# Altium integrated library CMN.IntLib: 53 symbols
Pins are listed as number, name and electrical type; pins without a type are passive.

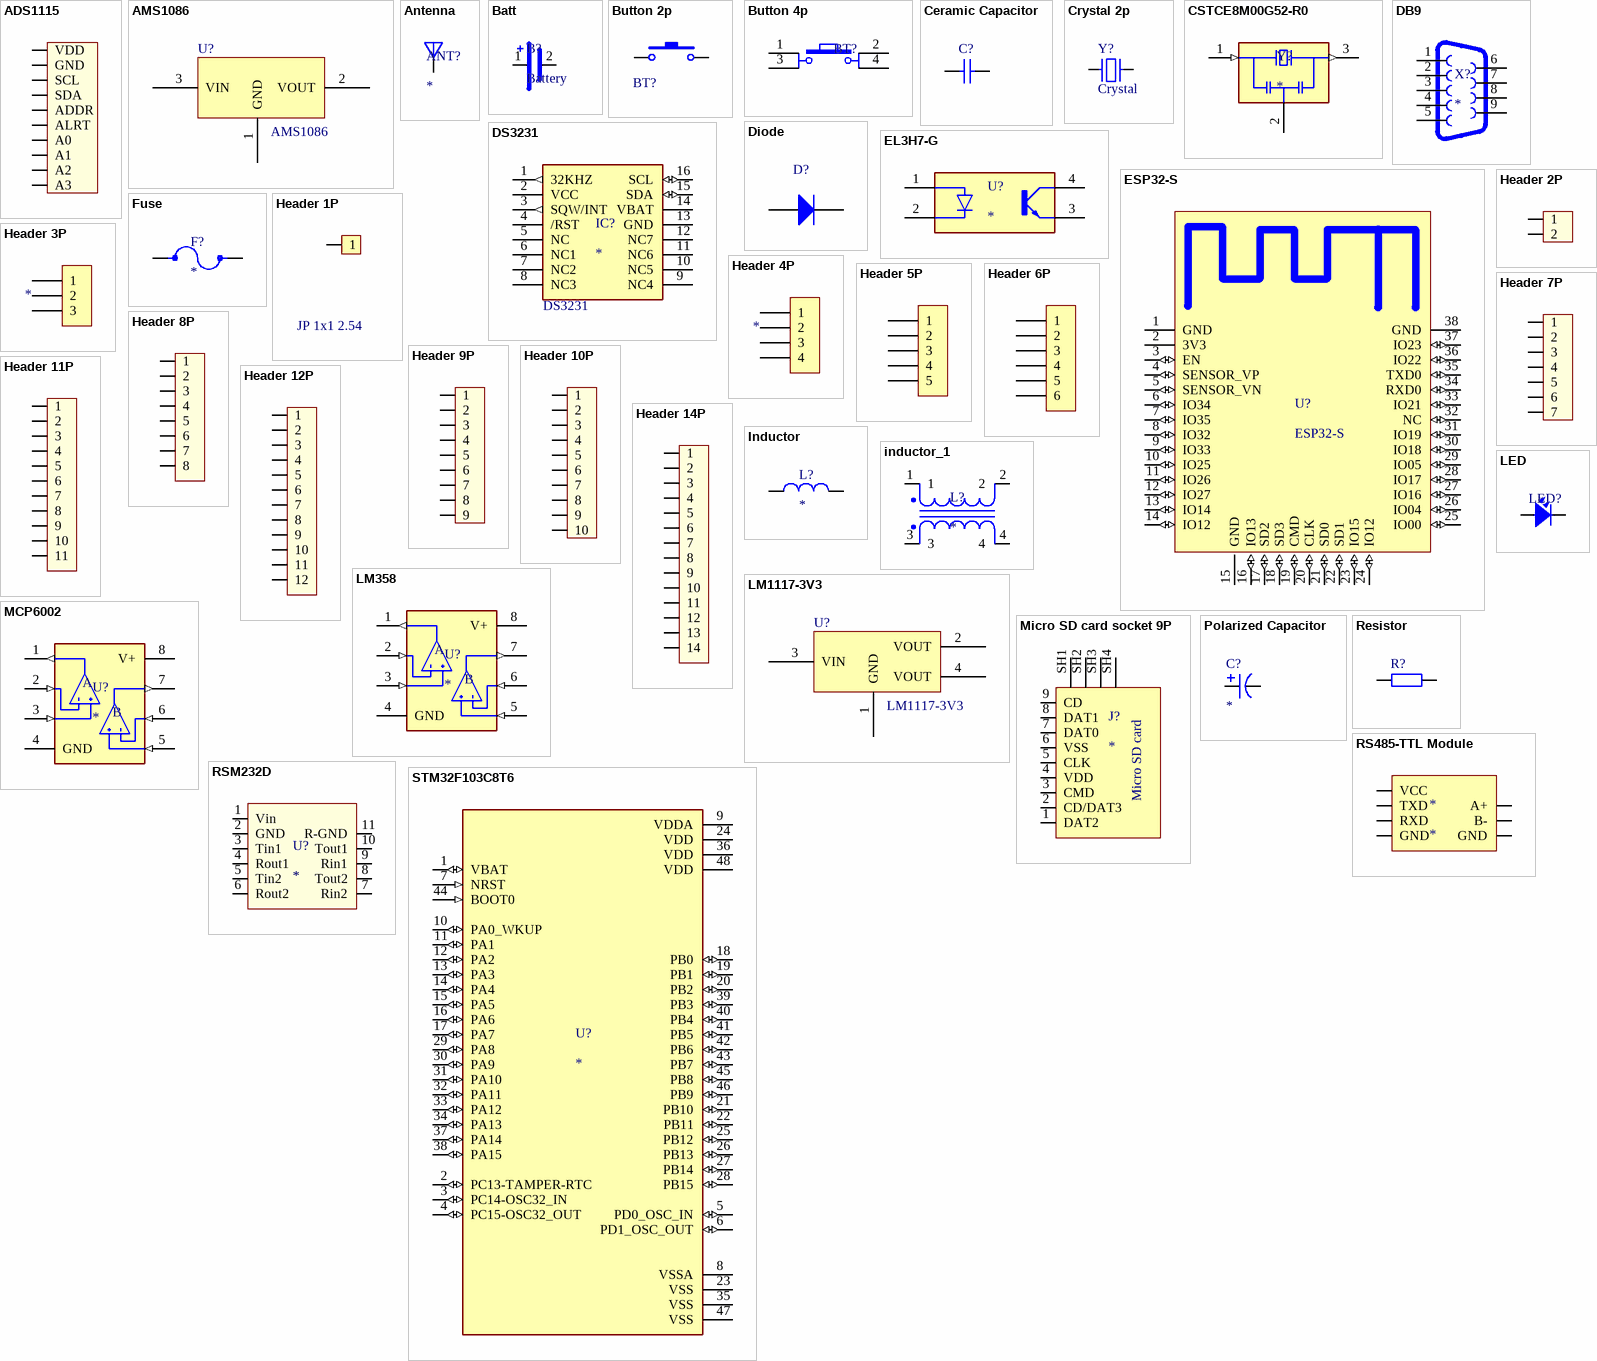
[diagram p0: symbols ADS1115 to STM32F103C8T6]

## ADS1115
designator U?
THT; Ten_Linh_Kien: Header 10P XH2.54-10P Đực Thẳng; Don_Vi: Con; Ma_Hang: MH001286; Chung_Loai: Cắm
footprint ADS1115 (4-channel ADC I2C)
pins: 1 VDD, 2 GND, 3 SCL, 4 SDA, 5 ADDR, 6 ALRT, 7 A0, 8 A1, 9 A2, 10 A3

## AMS1086
designator U?
Value: AMS1117-3.3V SOT223; Don_Vi: Con; Ma_Hang: MH000596; Chung_Loai: Dán; Ghi_Chu: *; Kieu_Chan: *
footprint TO-252 (SMD)
pins: 1 GND, 2 VOUT, 3 VIN

## Antenna
designator ANT?
footprint ANTENNA (for ESP32)
pins: 1 ANT

## Batt
designator B?, comment Battery
footprint CR2032_bat_holder (SMD_1)
footprint CR2032 Holder
pins: 1 Positive, 2 Negative

## Button 2p
designator BT?
Nut Nhan 2 Chan SMD 3x6x2.5; Ma_Hang: MH001036; Ten: Nút Nhấn 2 Chân 3x6x2.5MM SMD
footprint Button 2p 3x6x2.5 (Switch SMD type)
pins: 1, 2

## Button 4p
designator BT?
Ten: Nút Nhấn 4 Chân 6.2x6.2x3.1MM SMD; Ma_Hang: MH002424
footprint SMD button 4 pins 6x6 (SW SMD button 4pin, 250 x250 mil)
pins: 1, 2, 3, 4

## Ceramic Capacitor
designator C?
Chung_Loai: Dán; Don_Vi: Con; So_Chan: 2; Ten_Linh_Kien: Tụ 0805 104-100nF 10% 50V; Ma_Hang: MH004551; Kieu_Chan: *
footprint 0603_Cap (0603 SMD Ceramic Capacitor)
footprint 0805_Cap (0805 SMD Ceramic Capacitor)
footprint 1206_CAP (3216 Tantalum Capacitor)
pins: 1, 2

## Crystal 2p
designator Y?, comment Crystal
Crystal For all Crystal 2pin.; Value: 4Mhz
footprint Crystal SMD 2p
pins: 1, 2

## CSTCE8M00G52-R0
designator Y?
8MHz Ceramic Resonator Built in Capacitor 10pF Â±0.2% -20Â°C ~ 80Â°C Surface Mount; MF: Murata; MP: CSTCE8M00G52-R0; Price: None; Check_prices: https://www.snapeda.com/parts/CSTCE8M00G52-R0/Murata%20Electronics%20North%20America/view-part/234504/?ref=eda; SnapEDA_Link: https://www.snapeda.com/parts/CSTCE8M00G52-R0/Murata%20Electronics%20North%20America/view-part/234504/?ref=snap; Package: Surface Mount Murata Electronics North America; Availability: Bad; Value: *
footprint OSC_CSTCE8M00G52-R0
pins: 1 IN (in), 2 GND (power), 3 OUT (out)

## DB9
designator X?
SURGE SUPPRESSOR RS-232 DB9M/F; MF: Tripp Lite; MP: DB9; Package: None; Price: None; SnapEDA_Link: https://www.snapeda.com/parts/DB9/Tripp%20Lite/view-part/4219179/?ref=snap; Availability: Unavailable; Value: *
footprint DB9
pins: 1 DCD, 2 RXD, 3 TXD, 4 DTR, 5 GND, 6 DSR, 7 RTS, 8 CTS, 9 RI

## Diode
designator D?
Ten_Linh_Kien: Diode S4 SOD123 ( 1N5819 SOD123); Ma_Hang: MH005519; Chung_Loai: Dán; Don_Vi: Con; Ghi_Chu: *; Kieu_Chan: *
footprint SMC - DO-214 (TVS Diode)
footprint SMA - DO-214AC (TVS Diode)
footprint SMB - DO-214AA (TVS Diode)
footprint SOD-323
pins: 1, 2

## DS3231
designator IC?
Real Time Clock (RTC) IC Clock/Calendar - IÂ²C, 2-Wire Serial 8-SOIC (0.154, 3.90mm Width); MP: DS3231; MF: Maxim Integrated; Check_prices: https://www.snapeda.com/parts/DS3231/Maxim+Integrated/view-part/?ref=eda; Value: *; Availability: In Stock; Price: None; Package: SOIC-16 Maxim Integrated; SnapEDA_Link: https://www.snapeda.com/parts/DS3231/Maxim+Integrated/view-part/?ref=snap; Purchase-URL: https://pricing.snapeda.com/search/part/DS3231/?ref=eda
footprint SOIC-16
pins: 1 32KHZ (out), 2 VCC (power), 3 SQW/INT (out), 4 /RST, 5 NC, 6 NC1, 7 NC2, 8 NC3, 9 NC4, 10 NC5, 11 NC6, 12 NC7, 13 GND (power), 14 VBAT (power), 15 SDA (io), 16 SCL (io)

## EL3H7-G
designator U?
Optoisolator Transistor Output 3750Vrms 1 Channel 4-SSOP; MP: EL3H7-G; MF: Everlight Electronics; Check_prices: https://www.snapeda.com/parts/EL3H7-G/Everlight+Electronics+Co+Ltd/view-part/?ref=eda; Value: *; Availability: In Stock; Price: None; Package: SSOP-4 Everlight Electronics; SnapEDA_Link: https://www.snapeda.com/parts/EL3H7-G/Everlight+Electronics+Co+Ltd/view-part/?ref=snap
footprint SSOP-4 (SMD)
pins: 1 A, 2 C, 3 E, 4 CO

## ESP32-S
designator U?
footprint ESP32-S
pins: 1 GND (power), 2 3V3 (power), 3 EN (io), 4 SENSOR_VP (io), 5 SENSOR_VN (io), 6 IO34 (io), 7 IO35 (io), 8 IO32 (io), 9 IO33 (io), 10 IO25 (io), 11 IO26 (io), 12 IO27 (io), 13 IO14 (io), 14 IO12 (io), 15 GND (power), 16 IO13 (io), 17 SD2 (io), 18 SD3 (io), 19 CMD (io), 20 CLK (io), 21 SD0 (io), 22 SD1 (io), 23 IO15 (io), 24 IO12 (io), 25 IO00 (io), 26 IO04 (io), 27 IO16 (io), 28 IO17 (io), 29 IO05 (io), 30 IO18 (io), 31 IO19 (io), 32 NC (io), 33 IO21 (io), 34 RXD0 (io), 35 TXD0 (io), 36 IO22 (io), 37 IO23 (io), 38 GND (power)

## Fuse
designator F?
Polymeric PTC Resettable Fuse 12V 2.6A Ih Surface Mount 1206 (3216 Metric), Concave; MP: MF-NSML260/12-2; MF: Bourns Inc.; Check_prices: https://www.snapeda.com/parts/MF-NSML260/12-2/Bourns/view-part/6238260/?ref=eda; Package: None; Value: *; Availability: In Stock; SnapEDA_Link: https://www.snapeda.com/parts/MF-NSML260/12-2/Bourns/view-part/6238260/?ref=snap; Price: None
footprint 1206_Fuse (SMD)
footprint 1812_FUSE
pins: 1, 2

## Header 1P
designator JP?, comment JP 1x1 2.54
THT; Ten_Linh_Kien: Jump Đơn Đực 2.54MM 1x40P Thẳng 11MM; Don_Vi: Con; Ma_Hang: MH000903; Chung_Loai: Cắm; Ghi_Chu: *; Kieu_Chan: *
footprint JP 1x1
pins: 1

## Header 2P
designator H?
THT; Ten_Linh_Kien: Header 2P XH2.54-2P Đực Cong; Don_Vi: Con; Ma_Hang: MH002852; Chung_Loai: Cắm
footprint XH2.54M-2
footprint CON 2 EDG5.08-2P
footprint JP 1x2
pins: 1, 2

## Header 3P
designator H?
THT; Ten_Linh_Kien: Header 3P XH2.54-3P Đực Cong; Don_Vi: Con; Ma_Hang: MH001302; Chung_Loai: Cắm
footprint XH2.54M-3
footprint CON 3 EDG5.08-3P
footprint JP 1X3
pins: 1, 2, 3

## Header 4P
designator H?
THT; Ten_Linh_Kien: Header 4P XH2.54-4P Đực Cong; Don_Vi: Con; Ma_Hang: MH001310; Chung_Loai: Cắm
footprint XH2.54M-4
footprint CON 4 EDG5.08-4P
footprint JP 1X4
pins: 1, 2, 3, 4

## Header 5P
designator H?
THT; Ten_Linh_Kien: Header 5P XH2.54-5P Đực Cong; Don_Vi: Con; Ma_Hang: MH001308; Chung_Loai: Cắm
footprint XH2.54M-5
footprint CON 5 EDG5.08-5P
footprint JP 1X5
pins: 1, 2, 3, 4, 5

## Header 6P
designator H?
THT; Ten_Linh_Kien: Header 6P XH2.54-6P Đực Cong; Don_Vi: Con; Ma_Hang: MH003363; Chung_Loai: Cắm
footprint XH2.54M-6
footprint JP 1X6
pins: 1, 2, 3, 4, 5, 6

## Header 7P
designator H?
THT; Ten_Linh_Kien: Header 7P XH2.54-7P Đực Cong; Don_Vi: Con; Ma_Hang: MH004118; Chung_Loai: Cắm
footprint JP 1X7
pins: 1, 2, 3, 4, 5, 6, 7

## Header 8P
designator H?
THT; Ten_Linh_Kien: Header 8P XH2.54-8P Đực Cong; Don_Vi: Con; Ma_Hang: MH003367; Chung_Loai: Cắm
footprint JP 1X8
pins: 1, 2, 3, 4, 5, 6, 7, 8

## Header 9P
designator H?
THT; Ten_Linh_Kien: Header 8P XH2.54-8P Đực Thẳng; Don_Vi: Con; Ma_Hang: MH003366; Chung_Loai: Cắm
footprint XH2.54M-9
footprint JP 1X9
pins: 1, 2, 3, 4, 5, 6, 7, 8, 9

## Header 10P
designator H?
THT; Ten_Linh_Kien: Header 10P XH2.54-10P Đực Thẳng; Don_Vi: Con; Ma_Hang: MH001286; Chung_Loai: Cắm
footprint JP 1X10
pins: 1, 2, 3, 4, 5, 6, 7, 8, 9, 10

## Header 11P
designator H?
THT; Ten_Linh_Kien: Header 10P XH2.54-10P Đực Thẳng; Don_Vi: Con; Ma_Hang: MH001286; Chung_Loai: Cắm
footprint JP 1X11
pins: 1, 2, 3, 4, 5, 6, 7, 8, 9, 10, 11

## Header 12P
designator H?
THT; Ten_Linh_Kien: Header 10P XH2.54-10P Đực Thẳng; Don_Vi: Con; Ma_Hang: MH001286; Chung_Loai: Cắm
footprint JP 1X12
pins: 1, 2, 3, 4, 5, 6, 7, 8, 9, 10, 11, 12

## Header 14P
designator H?
THT; Ten_Linh_Kien: Header 10P XH2.54-10P Đực Thẳng; Don_Vi: Con; Ma_Hang: MH001286; Chung_Loai: Cắm
footprint JP 1X14
pins: 1, 2, 3, 4, 5, 6, 7, 8, 9, 10, 11, 12, 13, 14

## Inductor
designator L?
Inductors from EPCOS include SMT Inductors, SMT Power Inductors, Transponder Coils, ISDN Transformers, xDSL Transformers, DC/DC Converters, RF Transformers and SMT Current Sense Transformers.; MP: B82477G4472M000; Price: None; SnapEDA_Link: https://www.snapeda.com/parts/B82477G4472M000/EPCOS/view-part/?ref=snap; Package: NON STANDARD-2 EPCOS; Value: *; Check_prices: https://www.snapeda.com/parts/B82477G4472M000/EPCOS/view-part/?ref=eda; Availability: In Stock; MF: EPCOS; Purchase-URL: https://pricing.snapeda.com/search/part/B82477G4472M000/?ref=eda
footprint 0603_Inductor (SMD)
footprint Inductor 5A (THT)
pins: 1, 2

## inductor_1
designator L?
Common mode choke / cuon cam xuyen
footprint Double inductor (cuon cam xuyen doi)
pins: 1, 2, 3, 4

## LED
designator LED?
LED single color 2 leads
footprint 0603_LED (LED single color 2 leads)
pins: A Anode, C Cathode

## LM358
designator U?
MP: altium_native_batch; Package: None; Price: None; Availability: Unavailable; Value: *
footprint SOIC-8 (Or SOP-8)
pins: 1 OUTA (out), 2 -INA (in), 3 +INA (in), 4 GND (power), 5 +INB (in), 6 -INB (in), 7 OUTB (out), 8 V+ (power)
text: A; B

## LM1117-3V3
designator U?
Value: AMS1117-3.3V SOT223; Don_Vi: Con; Ma_Hang: MH000596; Chung_Loai: Dán; Ghi_Chu: *; Kieu_Chan: *
footprint SOT-223
pins: 1 GND, 2 VOUT, 3 VIN, 4 VOUT

## MCP6002
designator U?
MP: altium_native_batch; Package: None; Price: None; Availability: Unavailable; Value: *
footprint SOIC-8 (Or SOP-8)
pins: 1 OUTA (out), 2 -INA (in), 3 +INA (in), 4 GND (power), 5 +INB (in), 6 -INB (in), 7 OUTB (out), 8 V+ (power)
text: A; B

## Micro SD card socket 9P
designator J?
9 (8 + 1) Position Card Connector microSD Surface Mount, Right Angle Gold; MF: Global Connector Technology; MP: MEM2075-00-140-01-A; Price: None; SnapEDA_Link: https://www.snapeda.com/parts/MEM2075-00-140-01-A/Global%20Connector%20Technology/view-part/2680480/?ref=snap; Value: *; Availability: In Stock; Package: Package; Check_prices: https://www.snapeda.com/parts/MEM2075-00-140-01-A/Global%20Connector%20Technology/view-part/2680480/?ref=eda
footprint Micro SD card socket (9 Pin)
pins: 1 DAT2, 2 CD/DAT3, 3 CMD, 4 VDD, 5 CLK, 6 VSS, 7 DAT0, 8 DAT1, 9 CD, SH1 SHIELD (power), SH2 SHIELD (power), SH3 SHIELD (power), SH4 SHIELD (power)
text: Micro SD card

## Polarized Capacitor
designator C?
Polarized Capacitor
footprint 1206_CAP (3216 Tantalum Capacitor)
footprint 8x12 radial capacitor
pins: 1, 2

## Resistor
designator R?
Chung_Loai: Dán; Don_Vi: Con; So_Chan: 2; Ten_Linh_Kien: Trở 0805 1% 1k; Ma_Hang: MH005468; Kieu_Chan: *
footprint 0805_Res (0805 SMD Resistor)
footprint 0603_Res (0603 SMD Resistor)
pins: 1, 2

## RS485-TTL Module
designator *
footprint RS485-TTL Module
pins: 1 VCC, 2 TXD, 3 RXD, 4 GND, 5 GND, 6 B-, 7 A+

## RSM232D
designator U?
footprint RSM232D (RS232 isolated)
pins: 1 Vin, 2 GND, 3 Tin1, 4 Rout1, 5 Tin2, 6 Rout2, 7 Rin2, 8 Tout2, 9 Rin1, 10 Tout1, 11 R-GND

## STM32F103C8T6
designator U?
ARMÂ® CortexÂ®-M3 STM32F1 Microcontroller IC 32-Bit 72MHz 64KB (64K x 8) FLASH 48-LQFP (7x7); MP: STM32F103C8T6; MF: STMicroelectronics; Price: None; Availability: In Stock; Package: LQFP-48 STMicroelectronics; SnapEDA_Link: https://www.snapeda.com/parts/STM32F103C8T6/STMicroelectronics/view-part/?ref=snap; Check_prices: https://www.snapeda.com/parts/STM32F103C8T6/STMicroelectronics/view-part/?ref=eda; Value: *; Purchase-URL: https://pricing.snapeda.com/search/part/STM32F103C8T6/?ref=eda
footprint LQFP-48
pins: 1 VBAT (io), 2 PC13-TAMPER-RTC (io), 3 PC14-OSC32_IN (io), 4 PC15-OSC32_OUT (io), 5 PD0_OSC_IN (io), 6 PD1_OSC_OUT (io), 7 NRST (in), 8 VSSA (power), 9 VDDA (power), 10 PA0_WKUP (io), 11 PA1 (io), 12 PA2 (io), 13 PA3 (io), 14 PA4 (io), 15 PA5 (io), 16 PA6 (io), 17 PA7 (io), 18 PB0 (io), 19 PB1 (io), 20 PB2 (io), 21 PB10 (io), 22 PB11 (io), 23 VSS (power), 24 VDD (power), 25 PB12 (io), 26 PB13 (io), 27 PB14 (io), 28 PB15 (io), 29 PA8 (io), 30 PA9 (io), 31 PA10 (io), 32 PA11 (io), 33 PA12 (io), 34 PA13 (io), 35 VSS (power), 36 VDD (power), 37 PA14 (io), 38 PA15 (io), 39 PB3 (io), 40 PB4 (io), 41 PB5 (io), 42 PB6 (io), 43 PB7 (io), 44 BOOT0 (in), 45 PB8 (io), 46 PB9 (io), 47 VSS (power), 48 VDD (power)

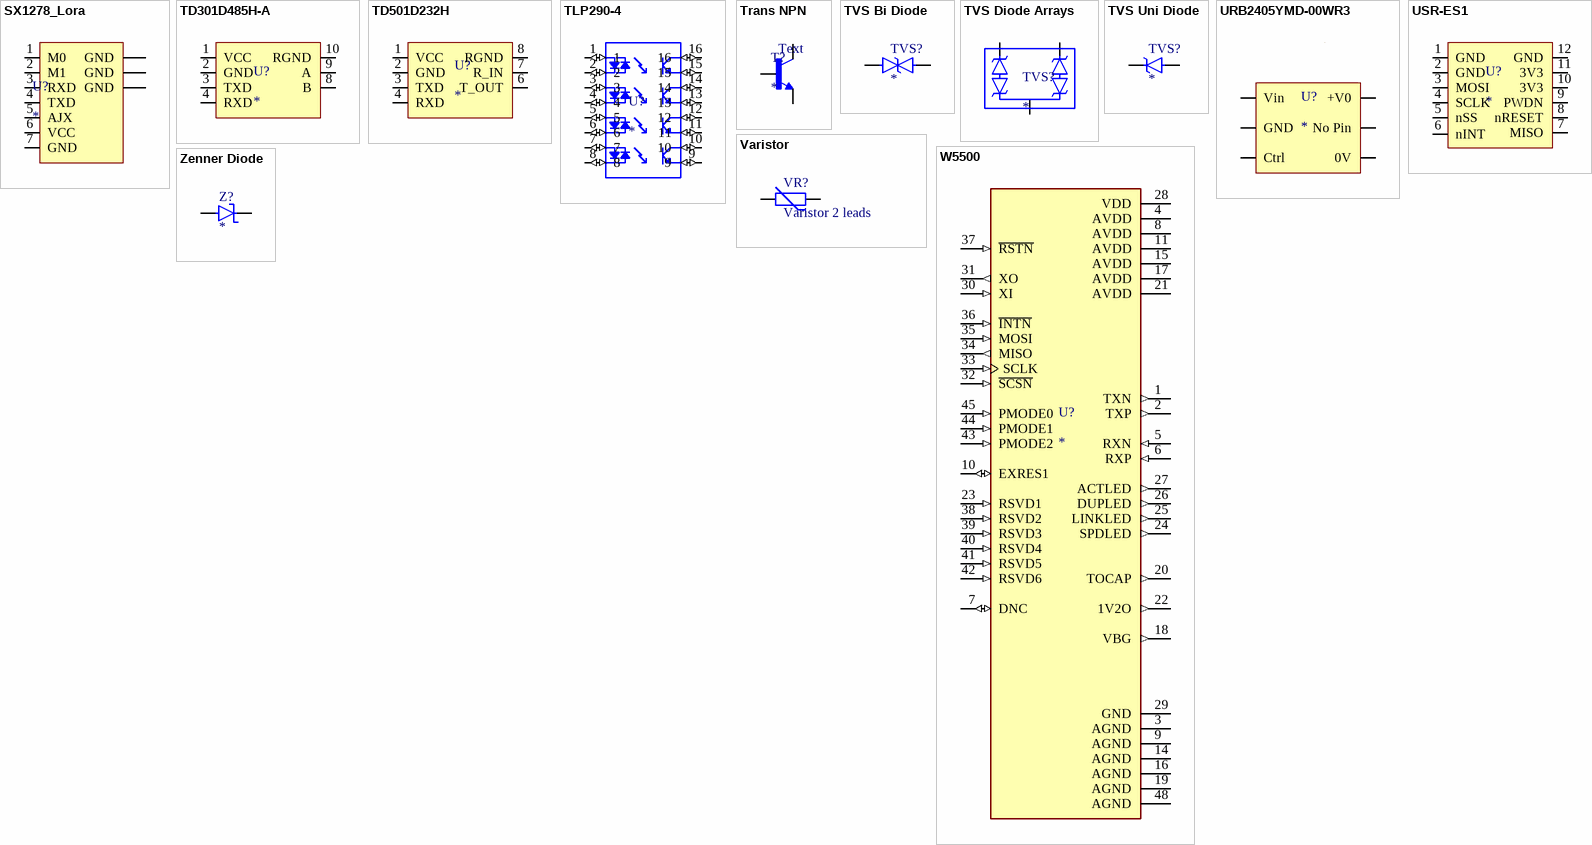
[diagram p1: symbols SX1278_Lora to Zenner Diode]

## SX1278_Lora
designator U?
footprint SX1278 module (UART)
pins: 1 M0, 2 M1, 3 RXD, 4 TXD, 5 AJX, 6 VCC, 7 GND, 8 GND, 9 GND, 10 GND

## TD301D485H-A
designator U?
TTL to RS485
footprint TD301D485H-A (RS485 isolated)
pins: 1 VCC, 2 GND, 3 TXD, 4 RXD, 8 B, 9 A, 10 RGND

## TD501D232H
designator U?
footprint TD501D232H (RS485 isolated)
pins: 1 VCC, 2 GND, 3 TXD, 4 RXD, 6 T_OUT, 7 R_IN, 8 RGND

## TLP290-4
designator U?
Optoisolator Transistor Output 2500Vrms 4 Channel 16-SO; MF: Toshiba Semiconductor; MP: TLP290-4; SnapEDA_Link: https://www.snapeda.com/parts/TLP290-4/Toshiba%20Semiconductor%20and%20Storage/view-part/482684/?ref=snap; Check_prices: https://www.snapeda.com/parts/TLP290-4/Toshiba%20Semiconductor%20and%20Storage/view-part/482684/?ref=eda; Price: None; Value: *; Availability: Unavailable; Package: SOIC-16 Toshiba
footprint SO16
pins: 1 (io), 2 (io), 3 (io), 4 (io), 5 (io), 6 (io), 7 (io), 8 (io), 9 (io), 10 (io), 11 (io), 12 (io), 13 (io), 14 (io), 15 (io), 16 (io)

## Trans NPN
designator T?
MF: Renesas Electronics; MP: TIP31C; Availability: Unavailable; SnapEDA_Link: https://www.snapeda.com/parts/TIP31C/Renesas%20Electronics%20America%20Inc./view-part/1915707/?ref=snap; Value: *; Price: None; Package: TO-220 Multicomp
footprint SOT-89 (SMD)
pins: 1 B, 2 C, 3 E
text: Text

## TVS Bi Diode
designator TVS?
footprint SMA - DO-214AC (TVS Diode)
footprint SMB - DO-214AA (TVS Diode)
footprint SMC - DO-214 (TVS Diode)
pins: 1, 2

## TVS Diode Arrays
designator TVS?
pins: 1, 2, 3

## TVS Uni Diode
designator TVS?
footprint SMB - DO-214AA (TVS Diode)
footprint SMA - DO-214AC (TVS Diode)
footprint SMC - DO-214 (TVS Diode)
pins: 1, 2

## URB2405YMD-00WR3
designator U?
footprint URB2405YMD-xxWR3 (DC-DC Converter)
pins: 1 Ctrl, 2 GND, 3 Vin, 4 +V0, 5 No Pin, 6 0V

## USR-ES1
designator U?
Ethernet module
footprint USR-ES1 (Ethernet module)
pins: 1 GND, 2 GND, 3 MOSI, 4 SCLK, 5 nSS, 6 nINT, 7 MISO, 8 nRESET, 9 PWDN, 10 3V3, 11 3V3, 12 GND

## Varistor
designator VR?, comment Varistor 2 leads
footprint Varistor
pins: 1, 2

## W5500
designator U?
Hardwired TCP/IP embedded Ethernet controller; MP: W5500; Availability: Unavailable; Value: *; Price: None; Package: None
footprint LQFP-48
pins: 1 TXN (out), 2 TXP (out), 3 AGND (power), 4 AVDD (power), 5 RXN (in), 6 RXP (in), 7 DNC (io), 8 AVDD (power), 9 AGND (power), 10 EXRES1 (io), 11 AVDD (power), 14 AGND (power), 15 AVDD (power), 16 AGND (power), 17 AVDD (power), 18 VBG (out), 19 AGND (power), 20 TOCAP (out), 21 AVDD (power), 22 1V2O (out), 23 RSVD1 (in), 24 SPDLED (out), 25 LINKLED (out), 26 DUPLED (out), 27 ACTLED (out), 28 VDD (power), 29 GND, 30 XI (in), 31 XO (out), 32 ~{SCSN} (in), 33 SCLK (in), 34 MISO (out), 35 MOSI (in), 36 ~{INTN} (in), 37 ~{RSTN} (in), 38 RSVD2 (in), 39 RSVD3 (in), 40 RSVD4 (in), 41 RSVD5 (in), 42 RSVD6 (in), 43 PMODE2 (in), 44 PMODE1 (in), 45 PMODE0 (in), 48 AGND (power)

## Zenner Diode
designator Z?
MP: 1SMA5926; MF: Taiwan Semiconductor; Package: SMA-2 Taiwan Semiconductor; Availability: In Stock; Purchase-URL: https://pricing.snapeda.com/search/part/1SMA5926/?ref=eda; SnapEDA_Link: https://www.snapeda.com/parts/1SMA5926/Taiwan+Semiconductor/view-part/?ref=snap; Price: None; Check_prices: https://www.snapeda.com/parts/1SMA5926/Taiwan+Semiconductor/view-part/?ref=eda; Value: *
footprint SMB - DO-214AA (TVS Diode)
pins: 1, 2